# Altium footprint library Components - 25.09.24 - 14.38.PcbLib: 1 footprints
Each footprint in its own frame and in the unit in brackets; x right, y up, seen from the top. Pads: shape width x height; smd on the part's side, far side on the other; paste and mask are expansions set on the pad; w line width, h text height; cw(c..) or ccw(c..) is an arc to the next point about the centre after c.
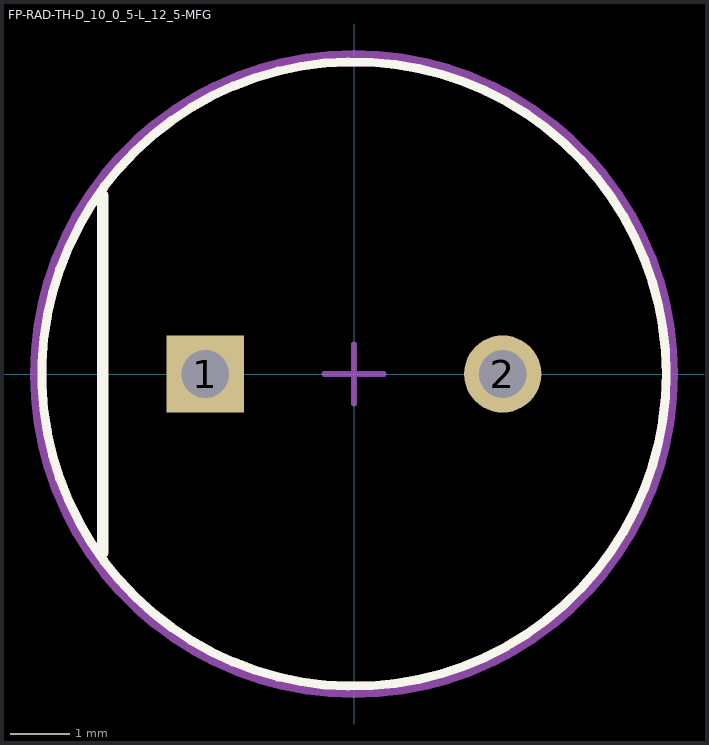
[diagram p0: the footprint, top view; thin cyan lines are the x and y axes]

## FP-RAD-TH-D_10_0_5-L_12_5-MFG [mm]
pads (2):
  rect 1.3x1.3 hole 0.8 paste-1000 mask+0: 1(-2.5,0)
  round 1.3 hole 0.8 paste-1000 mask+0: 2(2.5,0)
Top Overlay:
  circle w0.15: c0,0 r5.25
  lines w0.2: -4.225,-3 -4.225,3
Mechanical 5:
  text ".Designator" at 0,0.187 h1
Mechanical 13:
  circle w0.15: c0,0 r5.25
Mechanical 15:
  lines w0.2: -5.35,0 cw(c0,0) 5.35,0 cw(c0,0) -5.35,0 ; -5.35,0 -5.35,0
Mechanical 16:
  lines w0.1: -0.5,0 0.5,0 ; 0,-0.5 0,0.5
3D body "Cap_Panasonic_EEUFM1C471E_eec.STEP": height 0.25, standoff 0, extent -5.35,-5.35 5.35,5.35